# Altium footprint library PNA RF 17.06.24 - 17.20.PcbLib: 1 footprints
Each footprint in its own frame and in the unit in brackets; x right, y up, seen from the top. Pads: shape width x height; smd on the part's side, far side on the other; paste and mask are expansions set on the pad; w line width, h text height; cw(c..) or ccw(c..) is an arc to the next point about the centre after c.
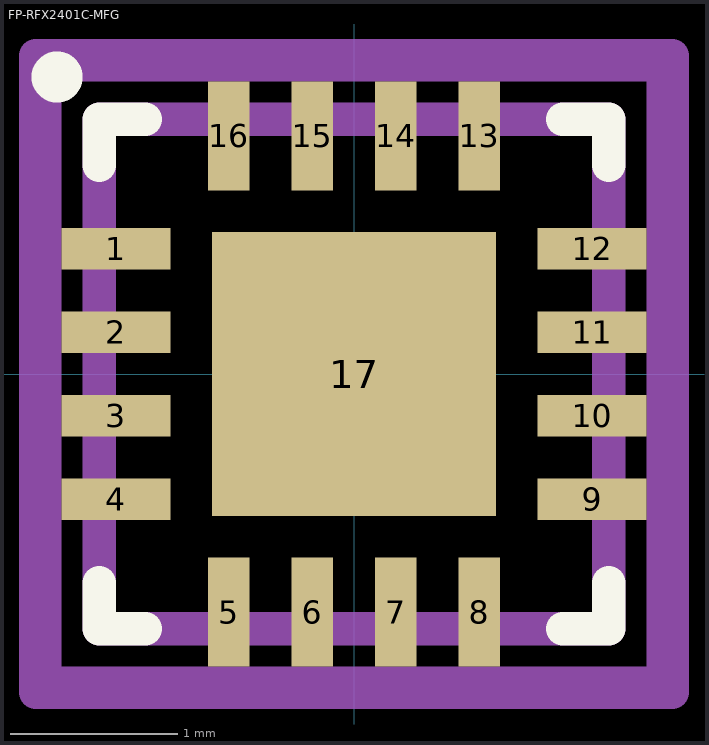
[diagram p0: the footprint, top view; thin cyan lines are the x and y axes]

## FP-RFX2401C-MFG [mm]
pads (17):
  rect 0.65x0.25 smd paste+0 mask+0: 1(-1.425,0.75) 2(-1.425,0.25) 3(-1.425,-0.25) 4(-1.425,-0.75) 9(1.425,-0.75) 10(1.425,-0.25) 11(1.425,0.25) 12(1.425,0.75)
  rect 0.25x0.65 smd paste+0 mask+0: 5(-0.75,-1.425) 6(-0.25,-1.425) 7(0.25,-1.425) 8(0.75,-1.425) 13(0.75,1.425) 14(0.25,1.425) 15(-0.25,1.425) 16(-0.75,1.425)
  rect 1.7x1.7 smd paste+0 mask+0: 17(0,0)
Top Overlay:
  circle w0.25: c-1.778,1.778 r0.028
  lines w0.2: -1.525,-1.25 -1.525,-1.525 -1.25,-1.525 ; -1.525,1.25 -1.525,1.525 -1.25,1.525 ; 1.25,-1.525 1.525,-1.525 1.525,-1.25 ; 1.25,1.525 1.525,1.525 1.525,1.25
Top Assembly:
  lines w0.2: -1.85,-1.85 1.85,-1.85 1.85,1.85 -1.85,1.85 -1.85,-1.85
Top 3D Body:
  lines w0.2: -1.525,-1.525 1.525,-1.525 1.525,1.525 -1.525,1.525 -1.525,-1.525
Top Courtyard:
  lines w0.2: -1.905,-1.905 1.905,-1.905 1.905,1.905 -1.905,1.905 -1.905,-1.905
Top Component Center:
  lines w0.1: -0.5,0 0.5,0 ; 0,-0.5 0,0.5
3D body "IC_Skyworks_Solutions_RFX2401C_eec.STEP": height 0.25, standoff 0, extent -1.85,-1.85 1.85,1.85